# Altium schematic symbol library SCR单向可控硅.SchLib: 1 symbol
Pins are listed as number, name and electrical type; pins without a type are passive.

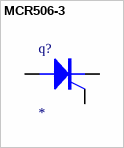
[diagram p0: symbol MCR506-3]

## MCR506-3
designator q?
Silicon Controlled Rectifier
simulation model MCR506-3 (SUBCKT)
pins: 1 A, 2 G, 3 K
1 alternate drawing of the same symbol